# Altium schematic symbol library PFET.SchLib: 1 symbol
Pins are listed as number, name and electrical type; pins without a type are passive.

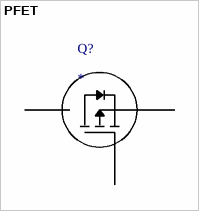
[diagram p0: symbol PFET]

## PFET
designator Q?
P-channel MOSFET 3-pin
pins: 1 G, 2 S, 3 D